# EAGLE library part STM32F042F6P6 (library ic-stm)
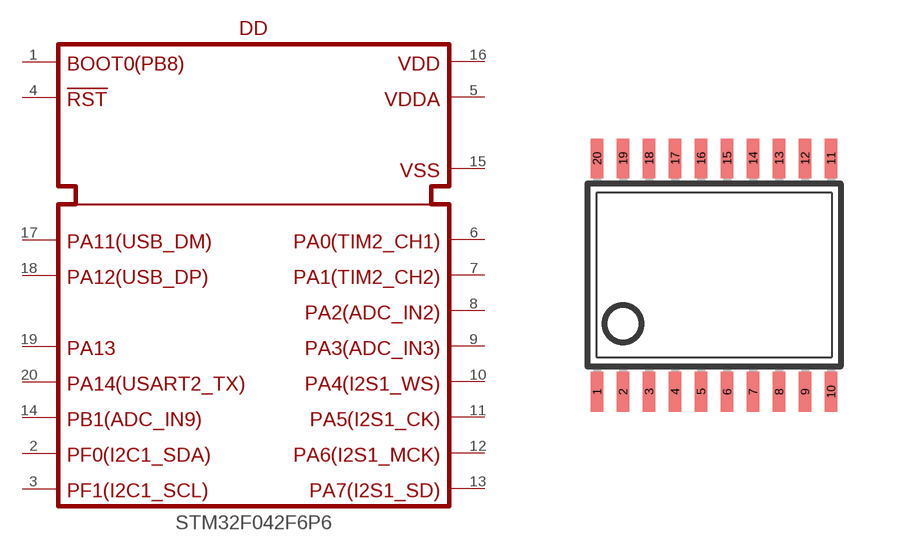
[diagram p0: symbol with the pads of TSSOP20; footprint TSSOP20]

Designator prefix DD

## STM32F042F6P6 (MOUSER: 511-STM32F042F6P6)  [TSSOP20]
1  BOOT0  in
2  PF0  in
3  PF1  in
4  !RST  in
5  VDDA  in
6  PA0  in
7  PA1  in
8  PA2  in
9  PA3  in
10  PA4  in
11  PA5  in
12  PA6  in
13  PA7  in
14  PB1  in
15  VSS  in
16  VDD  in
17  PA11  in
18  PA12  in
19  PA13  in
20  PA14  in

## Footprint TSSOP20 (pad centres in mm)
Thin Shrink Small Outline Plastic 20 MAX3223-MAX3243.pdf
smd 0.305 x 0.991: 1 -2.925,-2.918; 2 -2.275,-2.918; 3 -1.625,-2.918; 4 -0.975,-2.918; 5 -0.325,-2.918; 6 0.325,-2.918; 7 0.975,-2.918; 8 1.625,-2.918; 9 2.275,-2.918; 10 2.925,-2.918; 11 2.925,2.918; 12 2.275,2.918; 13 1.625,2.918; 14 0.975,2.918; 15 0.325,2.918; 16 -0.325,2.918; 17 -0.975,2.918; 18 -1.625,2.918; 19 -2.275,2.918; 20 -2.925,2.918